# Altium schematic symbol library ICL.SchLib: 1 symbol
Pins are listed as number, name and electrical type; pins without a type are passive.

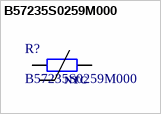
[diagram p0: symbol B57235S0259M000]

## B57235S0259M000
designator R?
Inrush Current Limiters ICL S235/2.5 M; Manufacturer: TDK; Resistance: 2.5Ω @ 25C; Rated Power: 1.8W; Tolerance: +/- 20%; Supplier 1 URL: https://www.mouser.com/ProductDetail/EPCOS-TDK/B57235S0259M000?qs=xhbEVWpZdWcchrzfHyzwOQ%3D%3D&srsltid=AfmBOooqwdoGI-LiIn5Rwen5ZtuT3H8a5L1SqqBv0mlur1nMsH1Zf-XX; Supplier 3 URL: N/A; Value: B57235S0259M000; Supplier 2 URL: https://www.digikey.com/en/products/detail/epcos-tdk-electronics/B57235S0259M000/5034002; Packaging: Tape and Reel; Supplier 1: Mouser; Supplier 1 Part Number: 871-B57235S0259M000; Supplier 2: Digi-Key; Supplier 2 Part Number: 495-6672-ND; Supplier 3: thegioiic; Supplier 3 Part Number: N/A; Manufacturer Part Number: B57235S0259M000; ComponentLink1Description: Datasheet; ComponentLink1URL: https://product.tdk.com/system/files/dam/doc/product/protection/current/ntc-limiter/data_sheet/50/db/icl_16/s235.pdf?ref_disty=mouser; Mount: SMD/SMT; Operating Temperature Max: + 85 C; Operating Temperature Min: - 40 C; Package / Case: Through Hole,P=5mm; LCSC Part #: C3760539
footprint S0259
pins: 1, 2
text: NTC